# EAGLE library part USB4056-03-A (library USB4056-03-A)
USB Connectors USB C 3.2 Rec, Horz, Hybrid PCB Top Mount, T+R Source: Datasheet <https://www.mouser.jp/datasheet/2/837/usb4056-2448808.pdf>
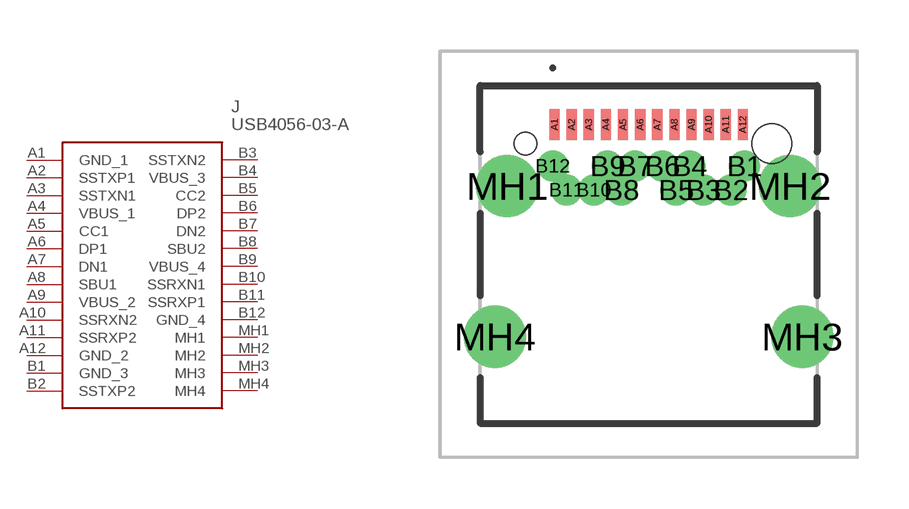
[diagram p0: symbol with the pads of USB405603A; footprint USB405603A]

Designator prefix J

## USB4056-03-A (Description: USB Connectors USB C 3.2 Rec, Horz, Hybrid PCB Top Mount, T+R; Height: 3.56mm; Manufacturer_Name: GCT (GLOBAL CONNECTOR TECHNOLOGY); Manufacturer_Part_Number: USB4056-03-A; Mouser_Part_Number: 640-USB4056-03-A; Mouser_Price-Stock: https://www.mouser.co.uk/ProductDetail/GCT/USB4056-03-A?qs=QNEnbhJQKvbZ7hZzgFEugA%3D%3D)  [USB405603A]
A1  GND_1
A2  SSTXP1
A3  SSTXN1
A4  VBUS_1
A5  CC1
A6  DP1
A7  DN1
A8  SBU1
A9  VBUS_2
A10  SSRXN2
A11  SSRXP2
A12  GND_2
B1  GND_3
B2  SSTXP2
B3  SSTXN2
B4  VBUS_3
B5  CC2
B6  DP2
B7  DN2
B8  SBU2
B9  VBUS_4
B10  SSRXN1
B11  SSRXP1
B12  GND_4
MH1  MH1
MH2  MH2
MH3  MH3
MH4  MH4

## Footprint USB405603A (pad centres in mm)
USB4056-03-A-3
smd 0.3 x 0.9: A1 -2.75,6.2; A2 -2.25,6.2; A3 -1.75,6.2; A4 -1.25,6.2; A5 -0.75,6.2; A6 -0.25,6.2; A7 0.25,6.2; A8 0.75,6.2; A9 1.25,6.2; A10 1.75,6.2; A11 2.25,6.2; A12 2.75,6.2
drill 0.4 pad 0.6: B1 2.8,4.99; B2 2.4,4.29; B3 1.6,4.29; B4 1.2,4.99; B5 0.8,4.29; B6 0.4,4.99; B7 -0.4,4.99; B8 -0.8,4.29; B9 -1.2,4.99; B10 -1.6,4.29; B11 -2.4,4.29; B12 -2.8,4.99
drill 1.21 pad 1.815: MH1 -4.13,4.4; MH2 4.13,4.4; MH3 4.49,0; MH4 -4.49,0
hole 0.65 at -3.6,5.64
hole 1.15 at 3.6,5.64